# Altium schematic symbol library ublox.SchLib: 3 symbols
Pins are listed as number, name and electrical type; pins without a type are passive.

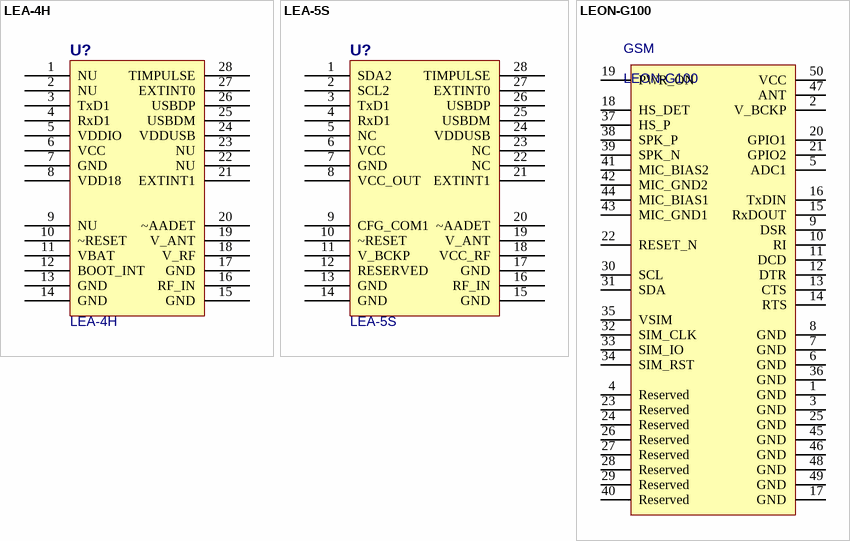
[diagram p0: symbols LEA-4H to LEON-G100]

## LEA-4H
designator U?
Value: LEA-4H
footprint LEA-LA
pins: 1 NU, 2 NU, 3 TxD1, 4 RxD1, 5 VDDIO, 6 VCC, 7 GND, 8 VDD18, 9 NU, 10 ~RESET, 11 VBAT, 12 BOOT_INT, 13 GND, 14 GND, 15 GND, 16 RF_IN, 17 GND, 18 V_RF, 19 V_ANT, 20 ~AADET, 21 EXTINT1, 22 NU, 23 NU, 24 VDDUSB, 25 USBDM, 26 USBDP, 27 EXTINT0, 28 TIMPULSE

## LEA-5S
designator U?
Value: LEA-5S
pins: 1 SDA2, 2 SCL2, 3 TxD1, 4 RxD1, 5 NC, 6 VCC, 7 GND, 8 VCC_OUT, 9 CFG_COM1, 10 ~RESET, 11 V_BCKP, 12 RESERVED, 13 GND, 14 GND, 15 GND, 16 RF_IN, 17 GND, 18 VCC_RF, 19 V_ANT, 20 ~AADET, 21 EXTINT1, 22 NC, 23 NC, 24 VDDUSB, 25 USBDM, 26 USBDP, 27 EXTINT0, 28 TIMPULSE

## LEON-G100
designator GSM
Value: LEON-G100
pins: 1 GND, 2 V_BCKP, 3 GND, 4 Reserved, 5 ADC1, 6 GND, 7 GND, 8 GND, 9 DSR, 10 RI, 11 DCD, 12 DTR, 13 CTS, 14 RTS, 15 RxDOUT, 16 TxDIN, 17 GND, 18 HS_DET, 19 PWR_ON, 20 GPIO1, 21 GPIO2, 22 RESET_N, 23 Reserved, 24 Reserved, 25 GND, 26 Reserved, 27 Reserved, 28 Reserved, 29 Reserved, 30 SCL, 31 SDA, 32 SIM_CLK, 33 SIM_IO, 34 SIM_RST, 35 VSIM, 36 GND, 37 HS_P, 38 SPK_P, 39 SPK_N, 40 Reserved, 41 MIC_BIAS2, 42 MIC_GND2, 43 MIC_GND1, 44 MIC_BIAS1, 45 GND, 46 GND, 47 ANT, 48 GND, 49 GND, 50 VCC